# Altium footprint library QFP_Thin_Sq_65P_Side_N.PcbLib: 6 footprints
Each footprint in its own frame and in the unit in brackets; x right, y up, seen from the top. Pads: shape width x height; smd on the part's side, far side on the other; paste and mask are expansions set on the pad; w line width, h text height; cw(c..) or ccw(c..) is an arc to the next point about the centre after c.
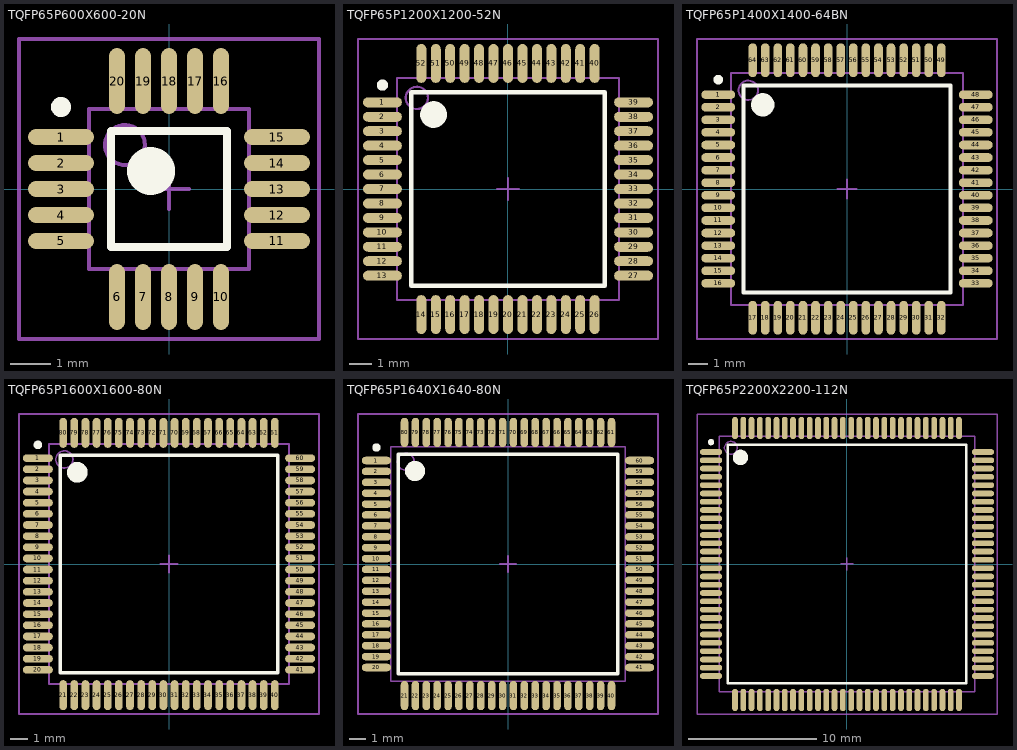
[diagram p0: the footprints below, top view; thin cyan lines are the x and y axes]

## TQFP65P600X600-20N [mm] "Thin QFP, 20-Leads, Body 4 x 4mm, Pitch 0.65mm, IPC Medium Density"
height 1.6
pads (20):
  oval 1.65x0.4 smd: 1(-2.7,1.3) 2(-2.7,0.65) 3(-2.7,0) 4(-2.7,-0.65) 5(-2.7,-1.3) 11(2.7,-1.3) 12(2.7,-0.65) 13(2.7,0) 14(2.7,0.65) 15(2.7,1.3)
  oval 0.4x1.65 smd: 6(-1.3,-2.7) 7(-0.65,-2.7) 8(0,-2.7) 9(0.65,-2.7) 10(1.3,-2.7) 16(1.3,2.7) 17(0.65,2.7) 18(0,2.7) 19(-0.65,2.7) 20(-1.3,2.7)
Top Overlay:
  circle w0.6: c-0.45,0.45 r0.3
  circle w0.25: c-2.7,2.05 r0.125
  lines w0.2: -1.45,-1.45 1.45,-1.45 1.45,1.45 -1.45,1.45 -1.45,-1.45
Mechanical 13:
  circle w0.1: c-1.1,1.1 r0.5
  lines w0.1: -2,-2 2,-2 2,2 -2,2 -2,-2
Mechanical 15:
  lines w0.1: -0.5,0 0.5,0 ; 0,-0.5 0,0.5 ; -3.75,-3.75 3.75,-3.75 3.75,3.75 -3.75,3.75 -3.75,-3.75
3D body: height 1.6, standoff 0, extent -2,-2 2,2

## TQFP65P1200X1200-52N [mm] "Thin QFP, 52-Leads, Body 10 x 10mm, Pitch 0.65mm, IPC Medium Density"
height 1.2
pads (52):
  oval 1.75x0.45 smd: 1(-5.65,3.9) 2(-5.65,3.25) 3(-5.65,2.6) 4(-5.65,1.95) 5(-5.65,1.3) 6(-5.65,0.65) 7(-5.65,0) 8(-5.65,-0.65) 9(-5.65,-1.3) 10(-5.65,-1.95) 11(-5.65,-2.6) 12(-5.65,-3.25) 13(-5.65,-3.9) 27(5.65,-3.9) 28(5.65,-3.25) 29(5.65,-2.6) 30(5.65,-1.95) 31(5.65,-1.3) 32(5.65,-0.65) 33(5.65,0) 34(5.65,0.65) 35(5.65,1.3) 36(5.65,1.95) 37(5.65,2.6) 38(5.65,3.25) 39(5.65,3.9)
  oval 0.45x1.75 smd: 14(-3.9,-5.65) 15(-3.25,-5.65) 16(-2.6,-5.65) 17(-1.95,-5.65) 18(-1.3,-5.65) 19(-0.65,-5.65) 20(0,-5.65) 21(0.65,-5.65) 22(1.3,-5.65) 23(1.95,-5.65) 24(2.6,-5.65) 25(3.25,-5.65) 26(3.9,-5.65) 40(3.9,5.65) 41(3.25,5.65) 42(2.6,5.65) 43(1.95,5.65) 44(1.3,5.65) 45(0.65,5.65) 46(0,5.65) 47(-0.65,5.65) 48(-1.3,5.65) 49(-1.95,5.65) 50(-2.6,5.65) 51(-3.25,5.65) 52(-3.9,5.65)
Top Overlay:
  circle w0.25: c-5.65,4.675 r0.125
  circle w0.6: c-3.35,3.35 r0.3
  lines w0.2: -4.35,-4.35 -4.35,4.35 4.35,4.35 4.35,-4.35 -4.35,-4.35
Mechanical 13:
  circle w0.1: c-4.1,4.1 r0.5
  lines w0.1: -5,-5 -5,5 5,5 5,-5 -5,-5
Mechanical 15:
  lines w0.1: -0.5,0 0.5,0 ; 0,-0.5 0,0.5 ; -6.75,-6.75 -6.75,6.75 6.75,6.75 6.75,-6.75 -6.75,-6.75
3D body: height 1.2, standoff 0, extent -5,-5 5,5

## TQFP65P1400X1400-64BN [mm] "Thin QFP, 64-Leads, Body 12 x 12mm, Pitch 0.65mm, IPC Medium Density"
height 1.2
pads (64):
  oval 1.75x0.45 smd: 1(-6.65,4.875) 2(-6.65,4.225) 3(-6.65,3.575) 4(-6.65,2.925) 5(-6.65,2.275) 6(-6.65,1.625) 7(-6.65,0.975) 8(-6.65,0.325) 9(-6.65,-0.325) 10(-6.65,-0.975) 11(-6.65,-1.625) 12(-6.65,-2.275) 13(-6.65,-2.925) 14(-6.65,-3.575) 15(-6.65,-4.225) 16(-6.65,-4.875) 33(6.65,-4.875) 34(6.65,-4.225) 35(6.65,-3.575) 36(6.65,-2.925) 37(6.65,-2.275) 38(6.65,-1.625) 39(6.65,-0.975) 40(6.65,-0.325) 41(6.65,0.325) 42(6.65,0.975) 43(6.65,1.625) 44(6.65,2.275) 45(6.65,2.925) 46(6.65,3.575) 47(6.65,4.225) 48(6.65,4.875)
  oval 0.45x1.75 smd: 17(-4.875,-6.65) 18(-4.225,-6.65) 19(-3.575,-6.65) 20(-2.925,-6.65) 21(-2.275,-6.65) 22(-1.625,-6.65) 23(-0.975,-6.65) 24(-0.325,-6.65) 25(0.325,-6.65) 26(0.975,-6.65) 27(1.625,-6.65) 28(2.275,-6.65) 29(2.925,-6.65) 30(3.575,-6.65) 31(4.225,-6.65) 32(4.875,-6.65) 49(4.875,6.65) 50(4.225,6.65) 51(3.575,6.65) 52(2.925,6.65) 53(2.275,6.65) 54(1.625,6.65) 55(0.975,6.65) 56(0.325,6.65) 57(-0.325,6.65) 58(-0.975,6.65) 59(-1.625,6.65) 60(-2.275,6.65) 61(-2.925,6.65) 62(-3.575,6.65) 63(-4.225,6.65) 64(-4.875,6.65)
Top Overlay:
  circle w0.6: c-4.35,4.35 r0.3
  circle w0.25: c-6.65,5.65 r0.125
  lines w0.2: -5.35,-5.35 5.35,-5.35 5.35,5.35 -5.35,5.35 -5.35,-5.35
Mechanical 13:
  circle w0.1: c-5.1,5.1 r0.5
  lines w0.1: -6,-6 6,-6 6,6 -6,6 -6,-6
Mechanical 15:
  lines w0.1: -0.5,0 0.5,0 ; 0,-0.5 0,0.5 ; -7.75,-7.75 7.75,-7.75 7.75,7.75 -7.75,7.75 -7.75,-7.75
3D body: height 1.2, standoff 0, extent -6,-6 6,6

## TQFP65P1600X1600-80N [mm] "Thin QFP, 80-Leads, Body 14 x 14mm, Pitch 0.65mm, IPC Medium Density"
height 1.2
pads (80):
  oval 1.75x0.45 smd: 1(-7.65,6.175) 2(-7.65,5.525) 3(-7.65,4.875) 4(-7.65,4.225) 5(-7.65,3.575) 6(-7.65,2.925) 7(-7.65,2.275) 8(-7.65,1.625) 9(-7.65,0.975) 10(-7.65,0.325) 11(-7.65,-0.325) 12(-7.65,-0.975) 13(-7.65,-1.625) 14(-7.65,-2.275) 15(-7.65,-2.925) 16(-7.65,-3.575) 17(-7.65,-4.225) 18(-7.65,-4.875) 19(-7.65,-5.525) 20(-7.65,-6.175) 41(7.65,-6.175) 42(7.65,-5.525) 43(7.65,-4.875) 44(7.65,-4.225) 45(7.65,-3.575) 46(7.65,-2.925) 47(7.65,-2.275) 48(7.65,-1.625) 49(7.65,-0.975) 50(7.65,-0.325) 51(7.65,0.325) 52(7.65,0.975) 53(7.65,1.625) 54(7.65,2.275) 55(7.65,2.925) 56(7.65,3.575) 57(7.65,4.225) 58(7.65,4.875) 59(7.65,5.525) 60(7.65,6.175)
  oval 0.45x1.75 smd: 21(-6.175,-7.65) 22(-5.525,-7.65) 23(-4.875,-7.65) 24(-4.225,-7.65) 25(-3.575,-7.65) 26(-2.925,-7.65) 27(-2.275,-7.65) 28(-1.625,-7.65) 29(-0.975,-7.65) 30(-0.325,-7.65) 31(0.325,-7.65) 32(0.975,-7.65) 33(1.625,-7.65) 34(2.275,-7.65) 35(2.925,-7.65) 36(3.575,-7.65) 37(4.225,-7.65) 38(4.875,-7.65) 39(5.525,-7.65) 40(6.175,-7.65) 61(6.175,7.65) 62(5.525,7.65) 63(4.875,7.65) 64(4.225,7.65) 65(3.575,7.65) 66(2.925,7.65) 67(2.275,7.65) 68(1.625,7.65) 69(0.975,7.65) 70(0.325,7.65) 71(-0.325,7.65) 72(-0.975,7.65) 73(-1.625,7.65) 74(-2.275,7.65) 75(-2.925,7.65) 76(-3.575,7.65) 77(-4.225,7.65) 78(-4.875,7.65) 79(-5.525,7.65) 80(-6.175,7.65)
Top Overlay:
  circle w0.25: c-7.65,6.95 r0.125
  circle w0.6: c-5.35,5.35 r0.3
  lines w0.2: -6.35,-6.35 -6.35,6.35 6.35,6.35 6.35,-6.35 -6.35,-6.35
Mechanical 13:
  circle w0.1: c-6.1,6.1 r0.5
  lines w0.1: -7,-7 -7,7 7,7 7,-7 -7,-7
Mechanical 15:
  lines w0.1: -0.5,0 0.5,0 ; 0,-0.5 0,0.5 ; -8.75,-8.75 -8.75,8.75 8.75,8.75 8.75,-8.75 -8.75,-8.75
3D body: height 1.2, standoff 0, extent -7,-7 7,7

## TQFP65P1640X1640-80N [mm] "Thin QFP, 80-Leads, Body 14 x 14mm, Pitch 0.65mm, IPC Medium Density"
height 1.6
pads (80):
  oval 1.75x0.45 smd: 1(-7.85,6.175) 2(-7.85,5.525) 3(-7.85,4.875) 4(-7.85,4.225) 5(-7.85,3.575) 6(-7.85,2.925) 7(-7.85,2.275) 8(-7.85,1.625) 9(-7.85,0.975) 10(-7.85,0.325) 11(-7.85,-0.325) 12(-7.85,-0.975) 13(-7.85,-1.625) 14(-7.85,-2.275) 15(-7.85,-2.925) 16(-7.85,-3.575) 17(-7.85,-4.225) 18(-7.85,-4.875) 19(-7.85,-5.525) 20(-7.85,-6.175) 41(7.85,-6.175) 42(7.85,-5.525) 43(7.85,-4.875) 44(7.85,-4.225) 45(7.85,-3.575) 46(7.85,-2.925) 47(7.85,-2.275) 48(7.85,-1.625) 49(7.85,-0.975) 50(7.85,-0.325) 51(7.85,0.325) 52(7.85,0.975) 53(7.85,1.625) 54(7.85,2.275) 55(7.85,2.925) 56(7.85,3.575) 57(7.85,4.225) 58(7.85,4.875) 59(7.85,5.525) 60(7.85,6.175)
  oval 0.45x1.75 smd: 21(-6.175,-7.85) 22(-5.525,-7.85) 23(-4.875,-7.85) 24(-4.225,-7.85) 25(-3.575,-7.85) 26(-2.925,-7.85) 27(-2.275,-7.85) 28(-1.625,-7.85) 29(-0.975,-7.85) 30(-0.325,-7.85) 31(0.325,-7.85) 32(0.975,-7.85) 33(1.625,-7.85) 34(2.275,-7.85) 35(2.925,-7.85) 36(3.575,-7.85) 37(4.225,-7.85) 38(4.875,-7.85) 39(5.525,-7.85) 40(6.175,-7.85) 61(6.175,7.85) 62(5.525,7.85) 63(4.875,7.85) 64(4.225,7.85) 65(3.575,7.85) 66(2.925,7.85) 67(2.275,7.85) 68(1.625,7.85) 69(0.975,7.85) 70(0.325,7.85) 71(-0.325,7.85) 72(-0.975,7.85) 73(-1.625,7.85) 74(-2.275,7.85) 75(-2.925,7.85) 76(-3.575,7.85) 77(-4.225,7.85) 78(-4.875,7.85) 79(-5.525,7.85) 80(-6.175,7.85)
Top Overlay:
  circle w0.6: c-5.55,5.55 r0.3
  circle w0.25: c-7.85,6.95 r0.125
  lines w0.2: -6.55,-6.55 6.55,-6.55 6.55,6.55 -6.55,6.55 -6.55,-6.55
Mechanical 13:
  circle w0.1: c-6.1,6.1 r0.5
  lines w0.1: -7,-7 7,-7 7,7 -7,7 -7,-7
Mechanical 15:
  lines w0.1: -0.5,0 0.5,0 ; 0,-0.5 0,0.5 ; -8.95,-8.95 8.95,-8.95 8.95,8.95 -8.95,8.95 -8.95,-8.95
3D body: height 1.6, standoff 0, extent -7,-7 7,7

## TQFP65P2200X2200-112N [mm] "Thin QFP, 112-Leads, Body 20 x 20mm, Pitch 0.65mm, IPC Medium Density"
height 1.2
pads (112):
  oval 1.75x0.45 smd: 1(-10.65,8.775) 2(-10.65,8.125) 3(-10.65,7.475) 4(-10.65,6.825) 5(-10.65,6.175) 6(-10.65,5.525) 7(-10.65,4.875) 8(-10.65,4.225) 9(-10.65,3.575) 10(-10.65,2.925) 11(-10.65,2.275) 12(-10.65,1.625) 13(-10.65,0.975) 14(-10.65,0.325) 15(-10.65,-0.325) 16(-10.65,-0.975) 17(-10.65,-1.625) 18(-10.65,-2.275) 19(-10.65,-2.925) 20(-10.65,-3.575) 21(-10.65,-4.225) 22(-10.65,-4.875) 23(-10.65,-5.525) 24(-10.65,-6.175) 25(-10.65,-6.825) 26(-10.65,-7.475) 27(-10.65,-8.125) 28(-10.65,-8.775) 57(10.65,-8.775) 58(10.65,-8.125) 59(10.65,-7.475) 60(10.65,-6.825) 61(10.65,-6.175) 62(10.65,-5.525) 63(10.65,-4.875) 64(10.65,-4.225) 65(10.65,-3.575) 66(10.65,-2.925) 67(10.65,-2.275) 68(10.65,-1.625) 69(10.65,-0.975) 70(10.65,-0.325) 71(10.65,0.325) 72(10.65,0.975) 73(10.65,1.625) 74(10.65,2.275) 75(10.65,2.925) 76(10.65,3.575) 77(10.65,4.225) 78(10.65,4.875) 79(10.65,5.525) 80(10.65,6.175) 81(10.65,6.825) 82(10.65,7.475) 83(10.65,8.125) 84(10.65,8.775)
  oval 0.45x1.75 smd: 29(-8.775,-10.65) 30(-8.125,-10.65) 31(-7.475,-10.65) 32(-6.825,-10.65) 33(-6.175,-10.65) 34(-5.525,-10.65) 35(-4.875,-10.65) 36(-4.225,-10.65) 37(-3.575,-10.65) 38(-2.925,-10.65) 39(-2.275,-10.65) 40(-1.625,-10.65) 41(-0.975,-10.65) 42(-0.325,-10.65) 43(0.325,-10.65) 44(0.975,-10.65) 45(1.625,-10.65) 46(2.275,-10.65) 47(2.925,-10.65) 48(3.575,-10.65) 49(4.225,-10.65) 50(4.875,-10.65) 51(5.525,-10.65) 52(6.175,-10.65) 53(6.825,-10.65) 54(7.475,-10.65) 55(8.125,-10.65) 56(8.775,-10.65) 85(8.775,10.65) 86(8.125,10.65) 87(7.475,10.65) 88(6.825,10.65) 89(6.175,10.65) 90(5.525,10.65) 91(4.875,10.65) 92(4.225,10.65) 93(3.575,10.65) 94(2.925,10.65) 95(2.275,10.65) 96(1.625,10.65) 97(0.975,10.65) 98(0.325,10.65) 99(-0.325,10.65) 100(-0.975,10.65) 101(-1.625,10.65) 102(-2.275,10.65) 103(-2.925,10.65) 104(-3.575,10.65) 105(-4.225,10.65) 106(-4.875,10.65) 107(-5.525,10.65) 108(-6.175,10.65) 109(-6.825,10.65) 110(-7.475,10.65) 111(-8.125,10.65) 112(-8.775,10.65)
Top Overlay:
  circle w0.25: c-10.65,9.55 r0.125
  circle w0.6: c-8.35,8.35 r0.3
  lines w0.2: -9.35,-9.35 -9.35,9.35 9.35,9.35 9.35,-9.35 -9.35,-9.35
Mechanical 13:
  circle w0.1: c-9.1,9.1 r0.5
  lines w0.1: -10,-10 -10,10 10,10 10,-10 -10,-10
Mechanical 15:
  lines w0.1: -0.5,0 0.5,0 ; 0,-0.5 0,0.5 ; -11.75,-11.75 -11.75,11.75 11.75,11.75 11.75,-11.75 -11.75,-11.75
3D body: height 1.2, standoff 0, extent -10,-10 10,10